# EAGLE library part MICRO_SD (library bschulz)
Micro SD Card - Card Detect, Exposed leads for non-reflow soldering Characteristics: Number of Positions: 10 (8 + 2) Insertion/Removal: Push In, Pull Out Switch: Yes Digikey: 114-00841-68-1-ND (Amphenol) <https://www.digikey.com/product-detail/en/amphenol-icc-commercial-products/114-00841-68/114-00841-68-1-ND/2187101> HR1941CT-ND (Hirose Alternative) <https://www.digikey.com/product-detail/en/hirose-electric-co-ltd/DM3D-SF/HR1941CT-ND/1786515>
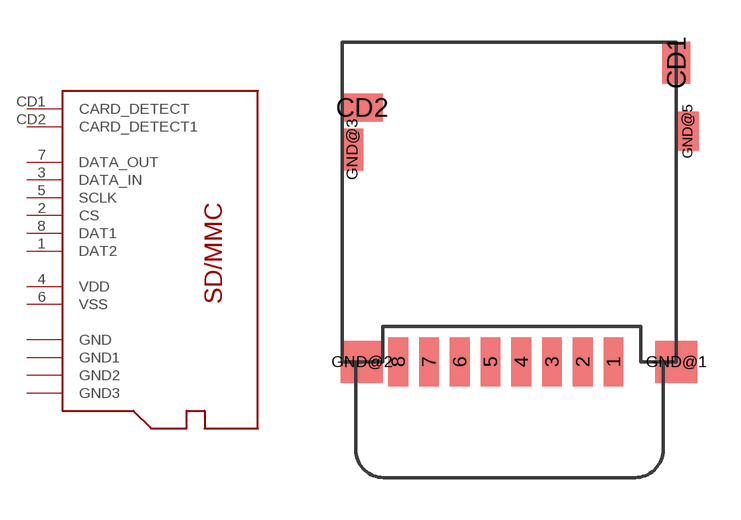
[diagram p4: symbol with the pads of CUSTOM-PARTS_SD_MICRO; footprint CUSTOM-PARTS_SD_MICRO]

Designator prefix SD

## MICRO_SD (DIGIKEY: 114-00841-68-1-ND; MF: Amphenol; MPN: 114-00841-68)  [CUSTOM-PARTS_SD_MICRO]
1  DAT2
2  CS
3  DATA_IN
4  VDD
5  SCLK
6  VSS
7  DATA_OUT
8  DAT1
CD1  CARD_DETECT
CD2  CARD_DETECT1
GND@1  GND
GND@2  GND1
GND@3  GND2
GND@5  GND3

## Footprint CUSTOM-PARTS_SD_MICRO (pad centres in mm)
Footprint for the Hirose DM3D-SF Also compatible with Amphenol 114-00841-68 Generic 10 position (8 + 2) layout
smd 0.7 x 1.75: 1 -2.25,0; 2 -3.35,0; 3 -4.45,0; 4 -5.55,0; 5 -6.65,0; 6 -7.75,0; 7 -8.85,0; 8 -9.95,0
smd 1 x 1.5: CD1 0,10.7
smd 1.5 x 1: CD2 -11.25,9.1
smd 1.5 x 1.5: GND@1 0,0; GND@2 -11.25,0
smd 0.8 x 1.5: GND@3 -11.6,7.6
smd 0.8 x 1.4: GND@5 0.4,8.25